# Altium footprint library QFP64P50_1200X1200X160L60X22N.PcbLib: 1 footprints
Each footprint in its own frame and in the unit in brackets; x right, y up, seen from the top. Pads: shape width x height; smd on the part's side, far side on the other; paste and mask are expansions set on the pad; w line width, h text height; cw(c..) or ccw(c..) is an arc to the next point about the centre after c.
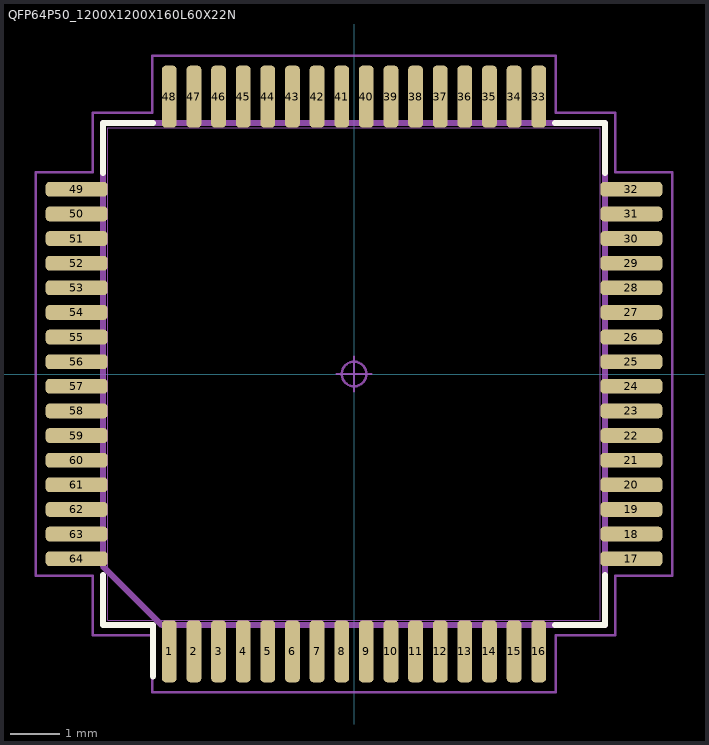
[diagram p0: the footprint, top view; thin cyan lines are the x and y axes]

## QFP64P50_1200X1200X160L60X22N [mm] "Quad Flat Pack (QFP), 0.50 mm pitch; square, 16 pin X 16 pin, 10.00 mm L X 10.00 mm W X 1.60 mm H body"
height 1.6
pads (64):
  rrect53% 0.3x1.26 smd: 1(-3.75,-5.63) 2(-3.25,-5.63) 3(-2.75,-5.63) 4(-2.25,-5.63) 5(-1.75,-5.63) 6(-1.25,-5.63) 7(-0.75,-5.63) 8(-0.25,-5.63) 9(0.25,-5.63) 10(0.75,-5.63) 11(1.25,-5.63) 12(1.75,-5.63) 13(2.25,-5.63) 14(2.75,-5.63) 15(3.25,-5.63) 16(3.75,-5.63) 33(3.75,5.63) 34(3.25,5.63) 35(2.75,5.63) 36(2.25,5.63) 37(1.75,5.63) 38(1.25,5.63) 39(0.75,5.63) 40(0.25,5.63) 41(-0.25,5.63) 42(-0.75,5.63) 43(-1.25,5.63) 44(-1.75,5.63) 45(-2.25,5.63) 46(-2.75,5.63) 47(-3.25,5.63) 48(-3.75,5.63)
  rrect53% 1.26x0.3 smd: 17(5.63,-3.75) 18(5.63,-3.25) 19(5.63,-2.75) 20(5.63,-2.25) 21(5.63,-1.75) 22(5.63,-1.25) 23(5.63,-0.75) 24(5.63,-0.25) 25(5.63,0.25) 26(5.63,0.75) 27(5.63,1.25) 28(5.63,1.75) 29(5.63,2.25) 30(5.63,2.75) 31(5.63,3.25) 32(5.63,3.75) 49(-5.63,3.75) 50(-5.63,3.25) 51(-5.63,2.75) 52(-5.63,2.25) 53(-5.63,1.75) 54(-5.63,1.25) 55(-5.63,0.75) 56(-5.63,0.25) 57(-5.63,-0.25) 58(-5.63,-0.75) 59(-5.63,-1.25) 60(-5.63,-1.75) 61(-5.63,-2.25) 62(-5.63,-2.75) 63(-5.63,-3.25) 64(-5.63,-3.75)
Top Overlay:
  lines w0.12: -5.1,-4.08 -5.1,-5.1 -4.08,-5.1 -4.08,-6.14 ; -5.1,4.08 -5.1,5.1 -4.08,5.1 ; 4.08,-5.1 5.1,-5.1 5.1,-4.08 ; 4.08,5.1 5.1,5.1 5.1,4.08
Mechanical 3:
  lines w0.12: -5.1,-3.9 -5.1,5.1 5.1,5.1 5.1,-5.1 -3.9,-5.1 -5.1,-3.9
Mechanical 5:
  drawing of 260 lines, arcs and shapes, not listed
Mechanical 7:
  circle w0.05: c0,0 r0.25
  lines w0.05: -0.35,0 0.35,0 ; 0,-0.35 0,0.35 ; -6.46,-4.1 -5.3,-4.1 -5.3,-5.3 -4.1,-5.3 -4.1,-6.46 4.1,-6.46 4.1,-5.3 5.3,-5.3 5.3,-4.1 6.46,-4.1 6.46,4.1 5.3,4.1 5.3,5.3 4.1,5.3 4.1,6.46 -4.1,6.46 -4.1,5.3 -5.3,5.3 -5.3,4.1 -6.46,4.1 -6.46,-4.1
Mechanical 9:
  text "'.Designator'" at -6,0 h1
3D body "QFP64P50_1200X1200X160L60X22.STEP": height 1.6, standoff 0, extent -6,-6 6,6
3D body: height 1.04, standoff 0, extent -6.46,-6.46 6.46,6.46